# EAGLE library part PCA9685PW/Q900 (library Smile_Shade)
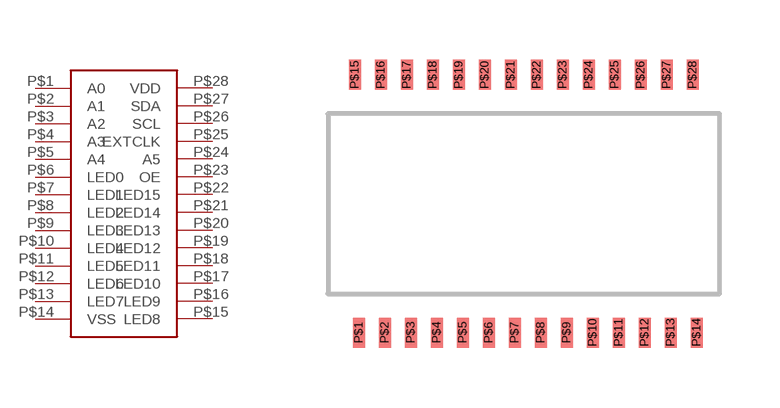
[diagram p9: symbol with the pads of SOT361-1; footprint SOT361-1]

Designator prefix -

## PCA9685PW/Q900  [SOT361-1]
P$1  A0
P$2  A1
P$3  A2
P$4  A3
P$5  A4
P$6  LED0
P$7  LED1
P$8  LED2
P$9  LED3
P$10  LED4
P$11  LED5
P$12  LED6
P$13  LED7
P$14  VSS
P$15  LED8
P$16  LED9
P$17  LED10
P$18  LED11
P$19  LED12
P$20  LED13
P$21  LED14
P$22  LED15
P$23  OE
P$24  A5
P$25  EXTCLK
P$26  SCL
P$27  SDA
P$28  VDD

## Footprint SOT361-1 (pad centres in mm)
smd 0.3 x 0.75: P$1 -4.125,-3.225; P$2 -3.475,-3.225; P$3 -2.825,-3.225; P$4 -2.175,-3.225; P$5 -1.525,-3.225; P$6 -0.875,-3.225; P$7 -0.225,-3.225; P$8 0.425,-3.225; P$9 1.075,-3.225; P$10 1.725,-3.225; P$11 2.375,-3.225; P$12 3.025,-3.225; P$13 3.675,-3.225; P$14 4.325,-3.225; P$15 -4.225,3.225; P$16 -3.575,3.225; P$17 -2.925,3.225; P$18 -2.275,3.225; P$19 -1.625,3.225; P$20 -0.975,3.225; P$21 -0.325,3.225; P$22 0.325,3.225; P$23 0.975,3.225; P$24 1.625,3.225; P$25 2.275,3.225; P$26 2.925,3.225; P$27 3.575,3.225; P$28 4.225,3.225